# EAGLE library part LTC2909 (library Bauteile)
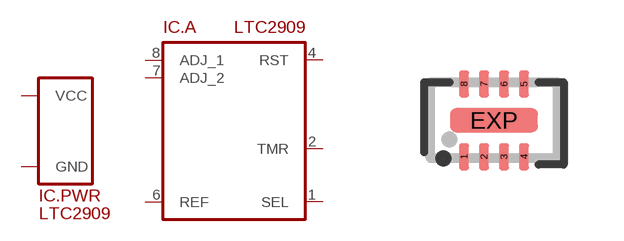
[diagram p93: symbol with the pads of DFN8_3X2; footprint DFN8_3X2]

Designator prefix IC; gates .PWR=SUPPLY_VCC/GND .A=LTC2909

## LTC2909  [DFN8_3X2]
1  .A:SEL
2  .A:TMR
3  .PWR:VCC
4  .A:RST
5  .PWR:GND
6  .A:REF
7  .A:ADJ_2
8  .A:ADJ_1
EXP  .PWR:GND

## Footprint DFN8_3X2 (pad centres in mm)
smd 0.25 x 0.675: 1 -0.75,-0.912; 2 -0.25,-0.912; 3 0.25,-0.912; 4 0.75,-0.912; 5 0.75,0.912; 6 0.25,0.912; 7 -0.25,0.912; 8 -0.75,0.912
smd 2.2 x 0.61: EXP 0,0